# Altium footprint library LDR_Sensor.PcbLib: 3 footprints
Each footprint in its own frame and in the unit in brackets; x right, y up, seen from the top. Pads: shape width x height; smd on the part's side, far side on the other; paste and mask are expansions set on the pad; w line width, h text height; cw(c..) or ccw(c..) is an arc to the next point about the centre after c.
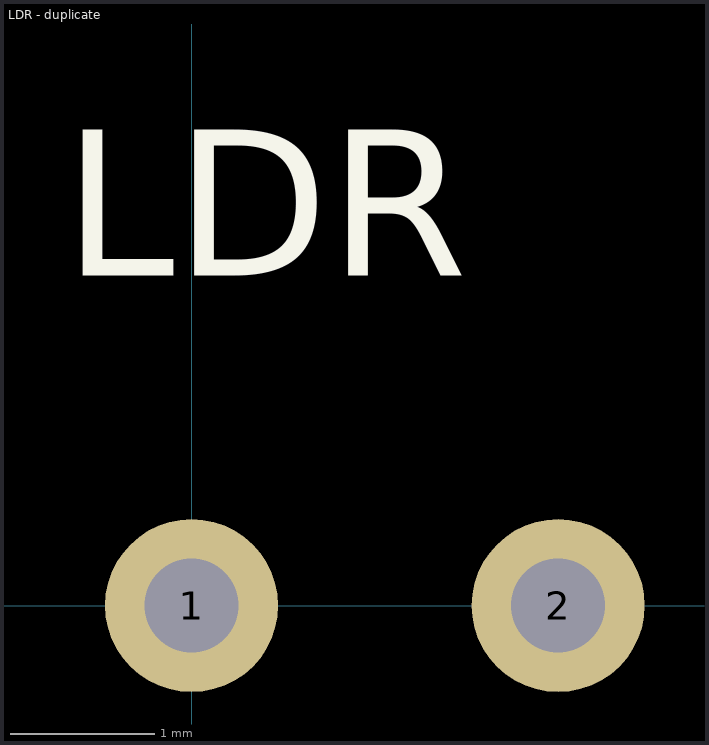
[diagram p0: the footprints below, top view; thin cyan lines are the x and y axes]

## LDR [mm]

## LDR - duplicate [mm]
pads (2):
  round 1.2 hole 0.65: 1(0,0) 2(2.54,0)
Top Overlay:
  text "LDR" at -0.889,2.286 h1.52
3D body "LDR_2.54_l15mm.step": height 4.2, standoff -12.8, extent -1.08,-1.822 3.556,1.778

## PCBComponent_1 [mm]